# Altium schematic symbol library pad1.SchLib: 1 symbol
Pins are listed as number, name and electrical type; pins without a type are passive.

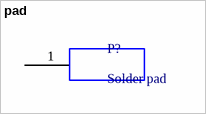
[diagram p0: symbol pad]

## pad
designator P?, comment Solder pad
footprint pad (solder pad)
pins: 1